# Altium integrated library MAALsLAB_Resistor_SMD.IntLib: 32 symbols
Pins are listed as number, name and electrical type; pins without a type are passive.

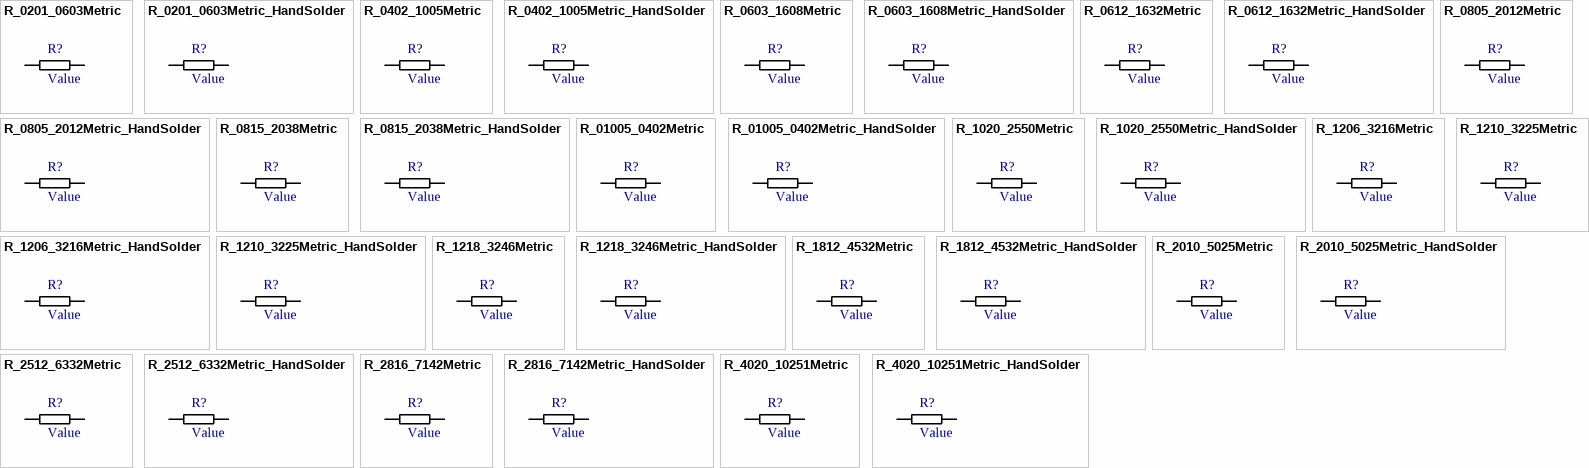
[diagram p0: symbols R_0201_0603Metric to R_4020_10251Metric_HandSolder]

## R_0201_0603Metric
designator R?, comment Value
Resistor SMD 0201 (0603 Metric), square (rectangular) end terminal.
footprint R_0201_0603Metric (Resistor SMD 0201 (0603 Metric))
pins: 1, 2

## R_0201_0603Metric_HandSolder
designator R?, comment Value
Resistor SMD 0201 (0603 Metric), square (rectangular) end terminal, with elongated pad for handsoldering.
footprint R_0201_0603Metric_HandSolder (Resistor SMD 0201 (0603 Metric) for handsoldering.)
pins: 1, 2

## R_0402_1005Metric
designator R?, comment Value
Resistor SMD 0402 (1005 Metric), square (rectangular) end terminal
footprint R_0402_1005Metric (Resistor SMD 0402 (1005 Metric))
pins: 1, 2

## R_0402_1005Metric_HandSolder
designator R?, comment Value
Resistor SMD 0402 (1005 Metric), square (rectangular) end terminal, with elongated pad for handsoldering.
footprint R_0402_1005Metric_HandSolder (Resistor SMD 0402 (1005 Metric) for handsoldering.)
pins: 1, 2

## R_0603_1608Metric
designator R?, comment Value
Resistor SMD 0603 (1608 Metric), square (rectangular) end terminal
footprint R_0603_1608Metric (Resistor SMD 0603 (1608 Metric))
pins: 1, 2

## R_0603_1608Metric_HandSolder
designator R?, comment Value
Resistor SMD 0603 (1608 Metric), square (rectangular) end terminal, with elongated pad for handsoldering.
footprint R_0603_1608Metric_HandSolder (Resistor SMD 0603 (1608 Metric) for handsoldering.)
pins: 1, 2

## R_0612_1632Metric
designator R?, comment Value
Resistor SMD 0612 (1632 Metric), square (rectangular) end terminal
footprint R_0612_1632Metric (Resistor SMD 0612 (1632 Metric))
pins: 1, 2

## R_0612_1632Metric_HandSolder
designator R?, comment Value
Resistor SMD 0612 (1632 Metric), square (rectangular) end terminal with elongated pad for handsoldering.
footprint R_0612_1632Metric_HandSolder (Resistor SMD 0612 (1632 Metric) for handsoldering.)
pins: 1, 2

## R_0805_2012Metric
designator R?, comment Value
Resistor SMD 0805 (2012 Metric), square (rectangular) end terminal
footprint R_0805_2012Metric (Resistor SMD 0805 (2012 Metric))
pins: 1, 2

## R_0805_2012Metric_HandSolder
designator R?, comment Value
Resistor SMD 0805 (2012 Metric), square (rectangular) end terminal, with elongated pad for handsoldering.
footprint R_0805_2012Metric_HandSolder (Resistor SMD 0805 (2012 Metric) for handsoldering.)
pins: 1, 2

## R_0815_2038Metric
designator R?, comment Value
Resistor SMD 0815 (2038 Metric), square (rectangular) end terminal
footprint R_0815_2038Metric (Resistor SMD 0815 (2038 Metric))
pins: 1, 2

## R_0815_2038Metric_HandSolder
designator R?, comment Value
Resistor SMD 0815 (2038 Metric), square (rectangular) end terminal with elongated pad for handsoldering.
footprint R_0815_2038Metric_HandSolder (Resistor SMD 0815 (2038 Metric) for handsoldering.)
pins: 1, 2

## R_01005_0402Metric
designator R?, comment Value
Resistor SMD 1005 (0402 Metric), square (rectangular) end terminal
footprint R_01005_0402Metric (Resistor SMD 01005 (0402 Metric))
pins: 1, 2

## R_01005_0402Metric_HandSolder
designator R?, comment Value
Resistor SMD 1005 (0402 Metric), square (rectangular) end terminal with elongated pad for handsoldering.
footprint R_01005_0402Metric_HandSolder (Resistor SMD 01005 (0402 Metric) for handsoldering.)
pins: 1, 2

## R_1020_2550Metric
designator R?, comment Value
Resistor SMD 1020 (2550 Metric), square (rectangular) end terminal
footprint R_1020_2550Metric (Resistor SMD 1020 (2550 Metric))
pins: 1, 2

## R_1020_2550Metric_HandSolder
designator R?, comment Value
Resistor SMD 1020 (2550 Metric), square (rectangular) end terminal with elongated pad for handsoldering.
footprint R_1020_2550Metric_HandSolder (Resistor SMD 1020 (2550 Metric) for handsoldering.)
pins: 1, 2

## R_1206_3216Metric
designator R?, comment Value
Resistor SMD 1206 (3216 Metric), square (rectangular) end terminal
footprint R_1206_3216Metric (Resistor SMD 1206 (3216 Metric))
pins: 1, 2

## R_1206_3216Metric_HandSolder
designator R?, comment Value
Resistor SMD 1206 (3216 Metric), square (rectangular) end terminal with elongated pad for handsoldering.
footprint R_1206_3216Metric_HandSolder (Resistor SMD 1206 (3216 Metric) for handsoldering.)
pins: 1, 2

## R_1210_3225Metric
designator R?, comment Value
Resistor SMD 1210 (3225 Metric), square (rectangular) end terminal
footprint R_1210_3225Metric (Resistor SMD 1210 (3225 Metric))
pins: 1, 2

## R_1210_3225Metric_HandSolder
designator R?, comment Value
Resistor SMD 1210 (3225 Metric), square (rectangular) end terminal with elongated pad for handsoldering.
footprint R_1210_3225Metric_HandSolder (Resistor SMD 1210 (3225 Metric) for handsoldering.)
pins: 1, 2

## R_1218_3246Metric
designator R?, comment Value
Resistor SMD 1218 (3246 Metric), square (rectangular) end terminal
footprint R_1218_3246Metric (Resistor SMD 1218 (3246 Metric))
pins: 1, 2

## R_1218_3246Metric_HandSolder
designator R?, comment Value
Resistor SMD 1218 (3246 Metric), square (rectangular) end terminal, with elongated pad for handsoldering.
footprint R_1218_3246Metric_HandSolder (Resistor SMD 1218 (3246 Metric) for handsoldering.)
pins: 1, 2

## R_1812_4532Metric
designator R?, comment Value
Resistor SMD 1812 (4532 Metric), square (rectangular) end terminal
footprint R_1812_4532Metric (Resistor SMD 1812 (4532 Metric))
pins: 1, 2

## R_1812_4532Metric_HandSolder
designator R?, comment Value
Resistor SMD 1812 (4532 Metric), square (rectangular) end terminal, with elongated pad for handsoldering.
footprint R_1812_4532Metric_HandSolder (Resistor SMD 1812 (4532 Metric) for handsoldering.)
pins: 1, 2

## R_2010_5025Metric
designator R?, comment Value
Resistor SMD 2010 (5025 Metric), square (rectangular) end terminal
footprint R_2010_5025Metric (Resistor SMD 2010 (5025 Metric))
pins: 1, 2

## R_2010_5025Metric_HandSolder
designator R?, comment Value
Resistor SMD 2010 (5025 Metric), square (rectangular) end terminal with elongated pad for handsoldering.
footprint R_2010_5025Metric_HandSolder (Resistor SMD 2010 (5025 Metric) for handsoldering.)
pins: 1, 2

## R_2512_6332Metric
designator R?, comment Value
Resistor SMD 2512 (6332 Metric), square (rectangular) end terminal
footprint R_2512_6332Metric (Resistor SMD 2512 (6332 Metric))
pins: 1, 2

## R_2512_6332Metric_HandSolder
designator R?, comment Value
Resistor SMD 2512 (6332 Metric), square (rectangular) end terminal with elongated pad for handsoldering.
footprint R_2512_6332Metric_HandSolder (Resistor SMD 2512 (6332 Metric) for handsoldering.)
pins: 1, 2

## R_2816_7142Metric
designator R?, comment Value
Resistor SMD 2816 (7142 Metric), square (rectangular) end terminal
footprint R_2816_7142Metric (Resistor SMD 2816 (7142 Metric))
pins: 1, 2

## R_2816_7142Metric_HandSolder
designator R?, comment Value
Resistor SMD 2816 (7142 Metric), square (rectangular) end terminal with elongated pad for handsoldering.
footprint R_2816_7142Metric_HandSolder (Resistor SMD 2816 (7142 Metric) for handsoldering.)
pins: 1, 2

## R_4020_10251Metric
designator R?, comment Value
Resistor SMD 4020 (10251 Metric), square (rectangular) end terminal
footprint R_4020_10251Metric (Resistor SMD 4020 (10251 Metric))
pins: 1, 2

## R_4020_10251Metric_HandSolder
designator R?, comment Value
Resistor SMD 4020 (10251 Metric), square (rectangular) end terminal with elongated pad for handsoldering.
footprint R_4020_10251Metric_HandSolder (Resistor SMD 4020 (10251 Metric) for handsoldering.)
pins: 1, 2